# EAGLE library part ACS712ELCTR-05B-T (library ICs)
CURRENT SENSOR, +/-5A, 2.5V VOUT (I = 0), 185mV/A, SOIC8, 712
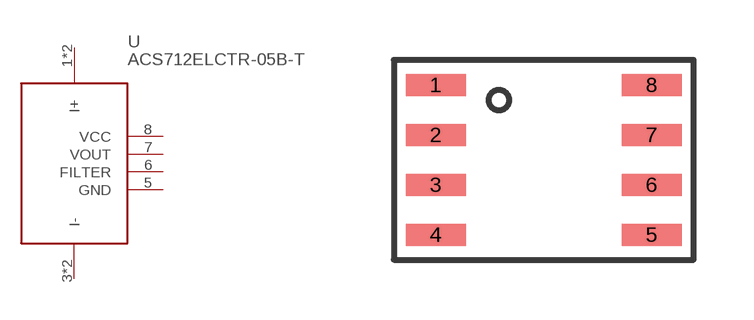
[diagram p118: symbol with the pads of SO8; footprint SO8]

Designator prefix U

## ACS712ELCTR-05B-T (FARNELL: SC10228; PRICE_PER: 3.00; VALUE: ACS712ELCTR-05B-T)  [SO8]
1  I+
2  I+
3  I-
4  I-
5  GND
6  FILTER
7  VOUT
8  VCC

## Footprint SO8 (pad centres in mm)
smd 1.5 x 0.55: 1 -2.7,1.875; 2 -2.7,0.625; 3 -2.7,-0.625; 4 -2.7,-1.875; 5 2.7,-1.875; 6 2.7,-0.625; 7 2.7,0.625; 8 2.7,1.875